# EAGLE library part SP8K4 (library sp8k4)
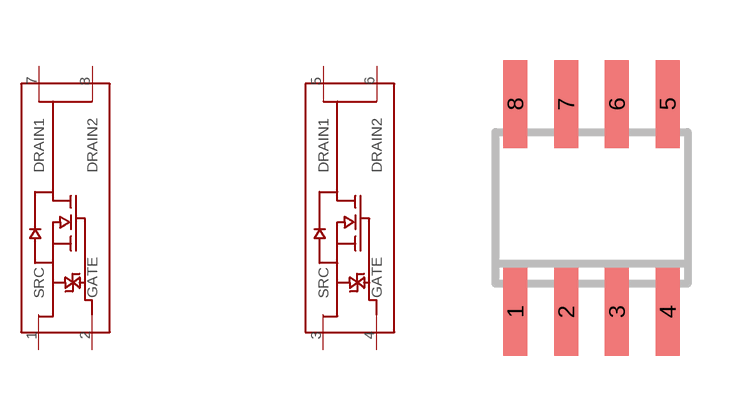
[diagram p0: symbol with the pads of SO8; footprint SO8]

Designator prefix -; gates G$1=SP8K4 G$2=SP8K4

## SP8K4  [SO8]
1  G$1:SRC
2  G$1:GATE
3  G$2:SRC
4  G$2:GATE
5  G$2:DRAIN1
6  G$2:DRAIN2
7  G$1:DRAIN1
8  G$1:DRAIN2

## Footprint SO8 (pad centres in mm)
8-Lead Small Outline IC (SO-8) Source: http://www.analog.com/UploadedFiles/Data_Sheets/703465986AD8611_2_0.pdf
smd 0.6 x 2.2: 1 -1.905,-2.6; 2 -0.635,-2.6; 3 0.635,-2.6; 4 1.905,-2.6; 5 1.905,2.6; 6 0.635,2.6; 7 -0.635,2.6; 8 -1.905,2.6